# Altium footprint library PcbLib_SHERPA.PcbLib: 12 footprints
Each footprint in its own frame and in the unit in brackets; x right, y up, seen from the top. Pads: shape width x height; smd on the part's side, far side on the other; paste and mask are expansions set on the pad; w line width, h text height; cw(c..) or ccw(c..) is an arc to the next point about the centre after c.
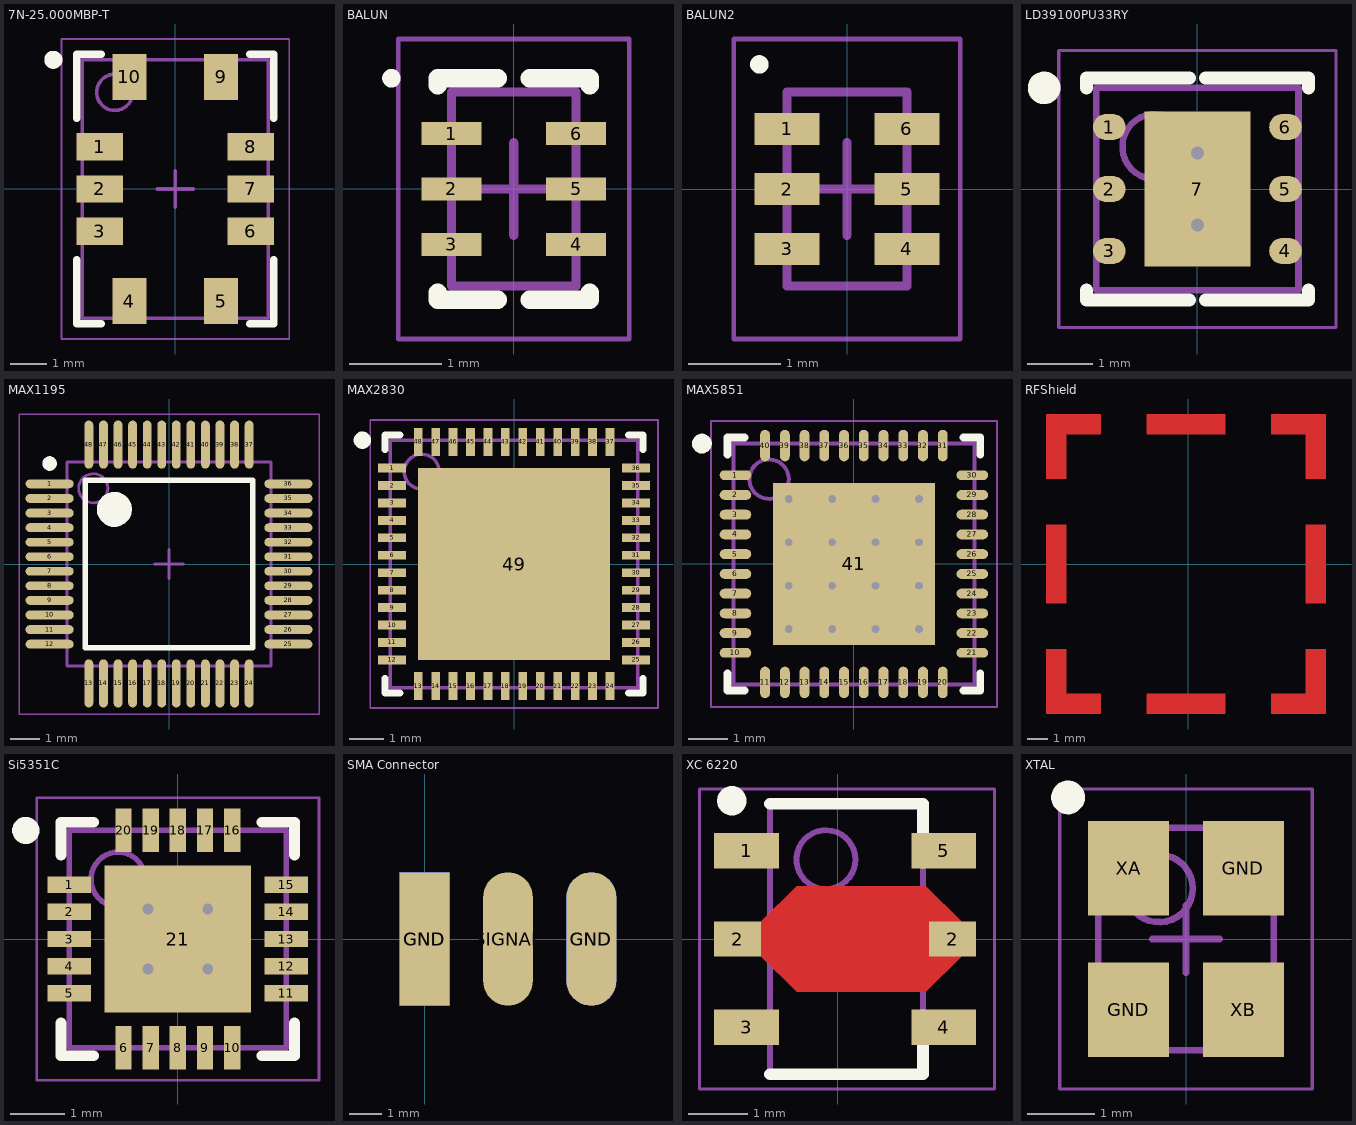
[diagram p0: the footprints below, top view; thin cyan lines are the x and y axes]

## 7N-25.000MBP-T [mm]
height 2
pads (10):
  rect 1.28x0.76 smd: 1(-2.09,1.17) 2(-2.09,0) 3(-2.09,-1.17) 6(2.09,-1.17) 7(2.09,0) 8(2.09,1.17)
  rect 0.94x1.28 smd: 4(-1.27,-3.1) 5(1.27,-3.1) 9(1.27,3.1) 10(-1.27,3.1)
Top Overlay:
  circle w0.25: c-3.375,3.575 r0.125
  lines w0.2: -2.725,-1.95 -2.725,-3.725 -2.05,-3.725 ; -2.725,1.95 -2.725,3.725 -2.05,3.725 ; 2.05,-3.725 2.725,-3.725 2.725,-1.95 ; 2.05,3.725 2.725,3.725 2.725,1.95
Mechanical 13:
  circle w0.1: c-1.675,2.675 r0.5
  lines w0.1: -2.575,-3.575 2.575,-3.575 2.575,3.575 -2.575,3.575 -2.575,-3.575
Mechanical 15:
  lines w0.05: -3.15,-4.15 3.15,-4.15 3.15,4.15 -3.15,4.15 -3.15,-4.15
  lines w0.1: -0.5,0 0.5,0 ; 0,-0.5 0,0.5
3D body: height 2, standoff 0, extent -2.575,-3.575 2.575,3.575

## BALUN [mm]
height 0.95
pads (6):
  rect 0.65x0.25 smd: 1(-0.675,0.6) 2(-0.675,0) 3(-0.675,-0.6) 4(0.675,-0.6) 5(0.675,0) 6(0.675,0.6)
Top Overlay:
  circle w0.1: c-1.325,1.2 r0.05
  lines w0.2: -0.825,-1.125 -0.825,-1.2 -0.175,-1.2 ; -0.825,1.125 -0.825,1.2 -0.175,1.2 ; 0.175,-1.2 0.825,-1.2 0.825,-1.125 ; 0.175,1.2 0.825,1.2 0.825,1.125
Mechanical 13:
  lines w0.1: -0.675,-1.05 -0.675,1.05 0.675,1.05 0.675,-1.05 -0.675,-1.05
Mechanical 15:
  lines w0.05: -1.25,-1.625 -1.25,1.625 1.25,1.625 1.25,-1.625 -1.25,-1.625
  lines w0.1: -0.5,0 0.5,0 ; 0,-0.5 0,0.5
3D body: height 0.95, standoff 0, extent -0.675,-1.05 0.675,1.05

## BALUN2 [mm]
height 0.8
pads (6):
  rect 0.7x0.35 smd: 1(-0.65,0.65) 2(-0.65,0) 3(-0.65,-0.65) 4(0.65,-0.65) 5(0.65,0) 6(0.65,0.65)
Top Overlay:
  circle w0.1: c-0.95,1.35 r0.05
Mechanical 13:
  lines w0.1: -0.65,-1.05 -0.65,1.05 0.65,1.05 0.65,-1.05 -0.65,-1.05
Mechanical 15:
  lines w0.05: -1.225,-1.625 -1.225,1.625 1.225,1.625 1.225,-1.625 -1.225,-1.625
  lines w0.1: -0.5,0 0.5,0 ; 0,-0.5 0,0.5
3D body: height 0.8, standoff 0, extent -0.65,-1.05 0.65,1.05

## LD39100PU33RY [mm] "QFN, 6-Leads, Body 3.00x3.00mm, Pitch 0.95mm, Thermal Pad 2.37x1.63mm, IPC Medium Density"
height 1
pads (7):
  oval 0.5x0.4 smd: 1(-1.35,0.95) 2(-1.35,0) 3(-1.35,-0.95) 4(1.35,-0.95) 5(1.35,0) 6(1.35,0.95)
  rect 1.63x2.37 smd: 7(0,0)
via 0,0.55 diameter 0.5 hole 0.2
via 0,-0.55 diameter 0.5 hole 0.2
Top Overlay:
  circle w0.25: c-2.35,1.55 r0.125
  lines w0.2: -1.7,-1.55 -1.7,-1.7 -0.125,-1.7 ; -1.7,1.55 -1.7,1.7 -0.125,1.7 ; 0.125,-1.7 1.7,-1.7 1.7,-1.55 ; 0.125,1.7 1.7,1.7 1.7,1.55
Mechanical 13:
  circle w0.1: c-0.65,0.65 r0.5
  lines w0.1: -1.55,-1.55 -1.55,1.55 1.55,1.55 1.55,-1.55 -1.55,-1.55
Mechanical 15:
  lines w0.05: -2.125,-2.125 -2.125,2.125 2.125,2.125 2.125,-2.125 -2.125,-2.125
  lines w0.1: -0.5,0 0.5,0 ; 0,-0.5 0,0.5
3D body: height 1, standoff 0, extent -1.55,-1.55 1.55,1.55

## MAX1195 [mm] "TSQFP, 48-Leads, Body 7.00x7.00mm, Pitch 0.50mm, IPC Medium Density"
height 1.2
pads (48):
  oval 1.65x0.3 smd: 1(-4.1,2.75) 2(-4.1,2.25) 3(-4.1,1.75) 4(-4.1,1.25) 5(-4.1,0.75) 6(-4.1,0.25) 7(-4.1,-0.25) 8(-4.1,-0.75) 9(-4.1,-1.25) 10(-4.1,-1.75) 11(-4.1,-2.25) 12(-4.1,-2.75) 25(4.1,-2.75) 26(4.1,-2.25) 27(4.1,-1.75) 28(4.1,-1.25) 29(4.1,-0.75) 30(4.1,-0.25) 31(4.1,0.25) 32(4.1,0.75) 33(4.1,1.25) 34(4.1,1.75) 35(4.1,2.25) 36(4.1,2.75)
  oval 0.3x1.65 smd: 13(-2.75,-4.1) 14(-2.25,-4.1) 15(-1.75,-4.1) 16(-1.25,-4.1) 17(-0.75,-4.1) 18(-0.25,-4.1) 19(0.25,-4.1) 20(0.75,-4.1) 21(1.25,-4.1) 22(1.75,-4.1) 23(2.25,-4.1) 24(2.75,-4.1) 37(2.75,4.1) 38(2.25,4.1) 39(1.75,4.1) 40(1.25,4.1) 41(0.75,4.1) 42(0.25,4.1) 43(-0.25,4.1) 44(-0.75,4.1) 45(-1.25,4.1) 46(-1.75,4.1) 47(-2.25,4.1) 48(-2.75,4.1)
Top Overlay:
  circle w0.25: c-4.1,3.45 r0.125
  circle w0.6: c-1.875,1.875 r0.3
  lines w0.2: -2.875,-2.875 -2.875,2.875 2.875,2.875 2.875,-2.875 -2.875,-2.875
Mechanical 13:
  circle w0.1: c-2.6,2.6 r0.5
  lines w0.1: -3.5,-3.5 -3.5,3.5 3.5,3.5 3.5,-3.5 -3.5,-3.5
Mechanical 15:
  lines w0.05: -5.15,-5.15 -5.15,5.15 5.15,5.15 5.15,-5.15 -5.15,-5.15
  lines w0.1: -0.5,0 0.5,0 ; 0,-0.5 0,0.5
3D body: height 1.2, standoff 0, extent -3.5,-3.5 3.5,3.5

## MAX2830 [mm]
height 0.8
pads (49):
  rect 0.8x0.25 smd: 1(-3.5,2.75) 2(-3.5,2.25) 3(-3.5,1.75) 4(-3.5,1.25) 5(-3.5,0.75) 6(-3.5,0.25) 7(-3.5,-0.25) 8(-3.5,-0.75) 9(-3.5,-1.25) 10(-3.5,-1.75) 11(-3.5,-2.25) 12(-3.5,-2.75) 25(3.5,-2.75) 26(3.5,-2.25) 27(3.5,-1.75) 28(3.5,-1.25) 29(3.5,-0.75) 30(3.5,-0.25) 31(3.5,0.25) 32(3.5,0.75) 33(3.5,1.25) 34(3.5,1.75) 35(3.5,2.25) 36(3.5,2.75)
  rect 0.25x0.8 smd: 13(-2.75,-3.5) 14(-2.25,-3.5) 15(-1.75,-3.5) 16(-1.25,-3.5) 17(-0.75,-3.5) 18(-0.25,-3.5) 19(0.25,-3.5) 20(0.75,-3.5) 21(1.25,-3.5) 22(1.75,-3.5) 23(2.25,-3.5) 24(2.75,-3.5) 37(2.75,3.5) 38(2.25,3.5) 39(1.75,3.5) 40(1.25,3.5) 41(0.75,3.5) 42(0.25,3.5) 43(-0.25,3.5) 44(-0.75,3.5) 45(-1.25,3.5) 46(-1.75,3.5) 47(-2.25,3.5) 48(-2.75,3.5)
  rect 5.5x5.5 smd: 49(0,0)
Top Overlay:
  circle w0.25: c-4.35,3.55 r0.125
  lines w0.2: -3.7,-3.275 -3.7,-3.7 -3.275,-3.7 ; -3.7,3.275 -3.7,3.7 -3.275,3.7 ; 3.275,-3.7 3.7,-3.7 3.7,-3.275 ; 3.275,3.7 3.7,3.7 3.7,3.275
Mechanical 13:
  circle w0.1: c-2.65,2.65 r0.5
  lines w0.1: -3.55,-3.55 -3.55,3.55 3.55,3.55 3.55,-3.55 -3.55,-3.55
Mechanical 15:
  lines w0.05: -4.125,-4.125 -4.125,4.125 4.125,4.125 4.125,-4.125 -4.125,-4.125
  lines w0.1: -0.5,0 0.5,0 ; 0,-0.5 0,0.5
3D body: height 0.8, standoff 0, extent -3.55,-3.55 3.55,3.55

## MAX5851 [mm]
height 0.8
pads (41):
  oval 0.8x0.25 smd: 1(-3,2.25) 2(-3,1.75) 3(-3,1.25) 4(-3,0.75) 5(-3,0.25) 6(-3,-0.25) 7(-3,-0.75) 8(-3,-1.25) 9(-3,-1.75) 10(-3,-2.25) 21(3,-2.25) 22(3,-1.75) 23(3,-1.25) 24(3,-0.75) 25(3,-0.25) 26(3,0.25) 27(3,0.75) 28(3,1.25) 29(3,1.75) 30(3,2.25)
  oval 0.25x0.8 smd: 11(-2.25,-3) 12(-1.75,-3) 13(-1.25,-3) 14(-0.75,-3) 15(-0.25,-3) 16(0.25,-3) 17(0.75,-3) 18(1.25,-3) 19(1.75,-3) 20(2.25,-3) 31(2.25,3) 32(1.75,3) 33(1.25,3) 34(0.75,3) 35(0.25,3) 36(-0.25,3) 37(-0.75,3) 38(-1.25,3) 39(-1.75,3) 40(-2.25,3)
  rect 4.1x4.1 smd: 41(0,0)
via -1.65,1.65 diameter 0.5 hole 0.2
via -0.55,1.65 diameter 0.5 hole 0.2
via 0.55,1.65 diameter 0.5 hole 0.2
via 1.65,1.65 diameter 0.5 hole 0.2
via -1.65,0.55 diameter 0.5 hole 0.2
via -0.55,0.55 diameter 0.5 hole 0.2
via 0.55,0.55 diameter 0.5 hole 0.2
via 1.65,0.55 diameter 0.5 hole 0.2
via -1.65,-0.55 diameter 0.5 hole 0.2
via -0.55,-0.55 diameter 0.5 hole 0.2
via 0.55,-0.55 diameter 0.5 hole 0.2
via 1.65,-0.55 diameter 0.5 hole 0.2
via -1.65,-1.65 diameter 0.5 hole 0.2
via -0.55,-1.65 diameter 0.5 hole 0.2
via 0.55,-1.65 diameter 0.5 hole 0.2
via 1.65,-1.65 diameter 0.5 hole 0.2
Top Overlay:
  circle w0.25: c-3.85,3.05 r0.125
  lines w0.2: -3.2,-2.775 -3.2,-3.2 -2.775,-3.2 ; -3.2,2.775 -3.2,3.2 -2.775,3.2 ; 2.775,-3.2 3.2,-3.2 3.2,-2.775 ; 2.775,3.2 3.2,3.2 3.2,2.775
Mechanical 13:
  circle w0.1: c-2.15,2.15 r0.5
  lines w0.1: -3.05,-3.05 -3.05,3.05 3.05,3.05 3.05,-3.05 -3.05,-3.05
Mechanical 15:
  lines w0.05: -3.625,-3.625 -3.625,3.625 3.625,3.625 3.625,-3.625 -3.625,-3.625
  lines w0.1: -0.5,0 0.5,0 ; 0,-0.5 0,0.5
3D body: height 0.8, standoff 0, extent -3.05,-3.05 3.05,3.05

## RFShield [mm]
Top Layer:
  rectangle: -6.847,-7.215 -5.847,-4.085
  rectangle: -6.847,-1.885 -5.847,1.915
  rectangle: -6.847,4.115 -5.847,7.245
  rectangle: -6.847,-7.215 -4.197,-6.215
  rectangle: -1.997,-7.215 1.803,-6.215
  rectangle: 4.003,-7.215 6.653,-6.215
  region: -4.197,7.245 -6.847,7.245 -6.847,6.245 -4.197,6.245
  region: 1.803,7.245 -1.997,7.245 -1.997,6.245 1.803,6.245
  region: 6.653,7.245 4.003,7.245 4.003,6.245 6.653,6.245
  region: 6.653,-4.085 5.653,-4.085 5.653,-7.215 6.653,-7.215
  region: 6.653,1.915 5.653,1.915 5.653,-1.885 6.653,-1.885
  region: 6.653,7.245 5.653,7.245 5.653,4.115 6.653,4.115

## Si5351C [mm]
height 0.9
pads (21):
  rect 0.8x0.3 smd: 1(-2,1) 2(-2,0.5) 3(-2,0) 4(-2,-0.5) 5(-2,-1) 11(2,-1) 12(2,-0.5) 13(2,0) 14(2,0.5) 15(2,1)
  rect 0.3x0.8 smd: 6(-1,-2) 7(-0.5,-2) 8(0,-2) 9(0.5,-2) 10(1,-2) 16(1,2) 17(0.5,2) 18(0,2) 19(-0.5,2) 20(-1,2)
  rect 2.7x2.7 smd: 21(0,0)
via 0.55,-0.55 diameter 0.5 hole 0.2
via -0.55,-0.55 diameter 0.5 hole 0.2
via 0.55,0.55 diameter 0.5 hole 0.2
via -0.55,0.55 diameter 0.5 hole 0.2
Top Overlay:
  circle w0.25: c-2.8,2 r0.125
  lines w0.2: -2.15,-1.55 -2.15,-2.15 -1.55,-2.15 ; -2.15,1.55 -2.15,2.15 -1.55,2.15 ; 1.55,-2.15 2.15,-2.15 2.15,-1.55 ; 1.55,2.15 2.15,2.15 2.15,1.55
Mechanical 13:
  circle w0.1: c-1.1,1.1 r0.5
  lines w0.1: -2,-2 2,-2 2,2 -2,2 -2,-2
Mechanical 15:
  lines w0.05: -2.6,-2.6 2.6,-2.6 2.6,2.6 -2.6,2.6 -2.6,-2.6
  lines w0.1: -0.5,0 0.5,0 ; 0,-0.5 0,0.5
3D body: height 0.9, standoff 0, extent -2,-2 2,2

## SMA Connector [mm]
pads (5):
  rect 1.52x4.06 smd: GND(0,0)
  rect 1.52x4.06 smd far side: GND(0,0)
  oval 1.52x4.06 smd: GND(5.08,0) SIGNAL(2.54,0)
  oval 1.52x4.06 smd far side: GND(5.08,0)

## XC 6220 [mm] "SOT89, 3-Leads, Body 4.50x2.50mm, Pitch 1.50mm, Lead Span 3.3mm, IPC Medium Density"
height 1.6
pads (6):
  rect 1.1x0.6 smd: 1(-1.55,1.5) 3(-1.55,-1.5) 4(1.804,-1.5) 5(1.804,1.5)
  rect 0.8x0.6 smd: 2(-1.7,0) 2(1.954,0)
Top Layer:
  region: -1.3,0.3 -0.7,0.9 1.5,0.9 2.1,0.3 2.1,-0.3 1.5,-0.9 -0.7,-0.9 -1.3,-0.3
Top Overlay:
  circle w0.25: c-1.8,2.35 r0.125
  lines w0.2: -1.15,-2.3 1.45,-2.3 1.45,-1.3 ; -1.15,2.3 1.45,2.3 1.45,1.3
Mechanical 13:
  circle w0.1: c-0.2,1.35 r0.5
  lines w0.1: -1.15,-2.3 1.45,-2.3 1.45,2.3 -1.15,2.3 -1.15,-2.3
Mechanical 15:
  lines w0.05: -2.35,-2.55 2.667,-2.55 2.667,2.55 -2.35,2.55 -2.35,-2.55
  lines w0.1: -0.35,0 0.65,0 ; 0.15,-0.5 0.15,0.5
3D body: height 1.6, standoff 0, extent -1.15,-2.3 1.45,2.3

## XTAL [mm]
height 0.8
pads (4):
  rect 1.2x1.4 smd: GND(-0.85,-1.05) GND(0.85,1.05) XA(-0.85,1.05) XB(0.85,-1.05)
Top Overlay:
  circle w0.25: c-1.75,2.1 r0.125
Mechanical 13:
  circle w0.1: c-0.4,0.75 r0.5
  lines w0.1: -1.3,-1.65 1.3,-1.65 1.3,1.65 -1.3,1.65 -1.3,-1.65
Mechanical 15:
  lines w0.05: -1.875,-2.225 1.875,-2.225 1.875,2.225 -1.875,2.225 -1.875,-2.225
  lines w0.1: -0.5,0 0.5,0 ; 0,-0.5 0,0.5
3D body: height 0.8, standoff 0, extent -1.3,-1.65 1.3,1.65